# EAGLE library part MAX893 (library 000001)
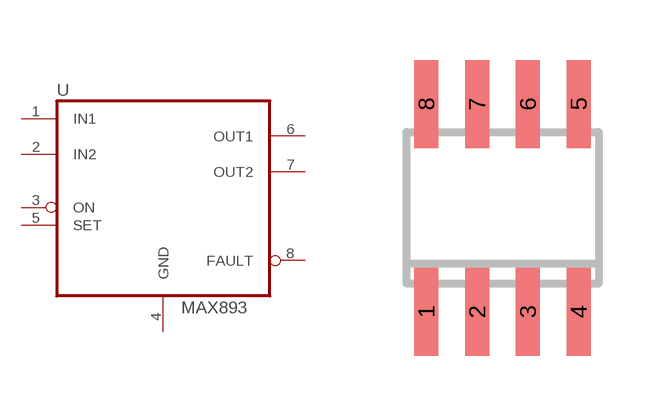
[diagram p122: symbol with the pads of SO08; footprint SO08]

Designator prefix -

## MAX893  [SO08]
1  IN1
2  IN2
3  ON
4  GND  pwr
5  SET
6  OUT1
7  OUT2
8  FAULT  in

## Footprint SO08 (pad centres in mm)
Small Outline Package 8 NS Package M08A
smd 0.6 x 2.2: 1 -1.905,-2.6; 2 -0.635,-2.6; 3 0.635,-2.6; 4 1.905,-2.6; 5 1.905,2.6; 6 0.635,2.6; 7 -0.635,2.6; 8 -1.905,2.6